# EAGLE library part 741-528 (library con-wago_741)
Serie 741, Durchführungsklemmenleiste 2 Lötstifte/Pol / Series 741, Feedthrough terminal strip 2 solder pins/pole Polzahl / Pole No.: 8 Rastermaß / Pitch: 10 - 10 mm Bemessungsspannung / Rated Voltage: 1000 V Nennstrom / Nominal Current: 16 A Leiterquerschnitt / Conductor Size: 0.08 - 2.5 mm2 Anschlusstechnik / Connection Technology: CAGE CLAMP® Lötstiftlänge: / Solder Pin Length: 4 mm Leitereinführung (zur Platine) / Conductor entry angle (to PCB): 0 ° Farbe / Color: grau / gray Stand: 01.01.2014. Die jeweils aktuellen Daten zu diesem Artikel finden Sie in unserem Produktkatalog, den Sie unter www.wago.com einsehen können. As of: 01/01/2014. Please find the newest data for this article in our product catalogue, which can be viewed under www.wago.com.
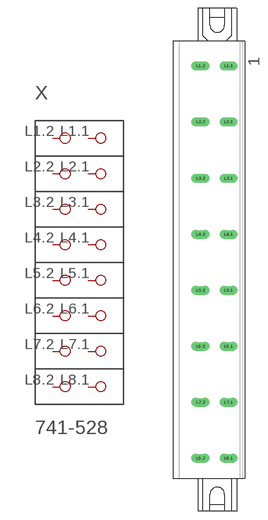
[diagram p46: symbol with the pads of P-741-528; footprint P-741-528]

Designator prefix X

## 741-528  [P-741-528]
L1.1  P1.1
L1.2  P1.2
L2.1  P2.1
L2.2  P2.2
L3.1  P3.1
L3.2  P3.2
L4.1  P4.1
L4.2  P4.2
L5.1  P5.1
L5.2  P5.2
L6.1  P6.1
L6.2  P6.2
L7.1  P7.1
L7.2  P7.2
L8.1  P8.1
L8.2  P8.2

## Footprint P-741-528 (pad centres in mm)
drill 1.1 long: L1.1 3.5,34.65; L1.2 -1.5,34.65; L2.1 3.5,24.65; L2.2 -1.5,24.65; L3.1 3.5,14.55; L3.2 -1.5,14.55; L4.1 3.5,4.55; L4.2 -1.5,4.55; L5.1 3.5,-5.45; L5.2 -1.5,-5.45; L6.1 3.5,-15.45; L6.2 -1.5,-15.45; L7.1 3.5,-25.45; L7.2 -1.5,-25.45; L8.1 3.5,-35.45; L8.2 -1.5,-35.45